# EAGLE library part FIN1104 (library fairchild-semiconductor)
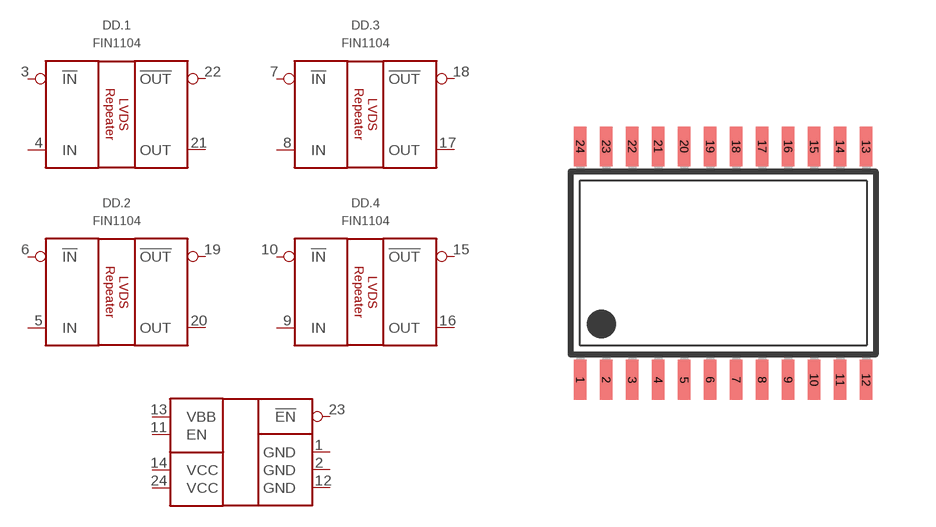
[diagram p1: symbol with the pads of TSSOP24; footprint TSSOP24]

Designator prefix DD; gates .1=LVDS_REPEATER .2=LVDS_REPEATER .3=LVDS_REPEATER .4=LVDS_REPEATER .5=REPEATER_POWER1104

## FIN1104MTC  [TSSOP24]
1  .5:GND  pwr
2  .5:GND  pwr
3  .1:!IN  in
4  .1:IN  in
5  .2:IN  in
6  .2:!IN  in
7  .3:!IN  in
8  .3:IN  in
9  .4:IN  in
10  .4:!IN  in
11  .5:EN  in
12  .5:GND  pwr
13  .5:VBB  out
14  .5:VCC  pwr
15  .4:!OUT  out
16  .4:OUT  out
17  .3:OUT  out
18  .3:!OUT  out
19  .2:!OUT  out
20  .2:OUT  out
21  .1:OUT  out
22  .1:!OUT  out
23  .5:!EN  in
24  .5:VCC  pwr

## Footprint TSSOP24 (pad centres in mm)
Thin Shrink Small Outline Plastic 24 MAX3223-MAX3243.pdf
smd 0.305 x 0.991: 1 -3.575,-2.918; 2 -2.925,-2.918; 3 -2.275,-2.918; 4 -1.625,-2.918; 5 -0.975,-2.918; 6 -0.325,-2.918; 7 0.325,-2.918; 8 0.975,-2.918; 9 1.625,-2.918; 10 2.275,-2.918; 11 2.925,-2.918; 12 3.575,-2.918; 13 3.575,2.918; 14 2.925,2.918; 15 2.275,2.918; 16 1.625,2.918; 17 0.975,2.918; 18 0.325,2.918; 19 -0.325,2.918; 20 -0.975,2.918; 21 -1.625,2.918; 22 -2.275,2.918; 23 -2.925,2.918; 24 -3.575,2.918